# Altium schematic symbol library Capacitors.SchLib: 13 symbols
Pins are listed as number, name and electrical type; pins without a type are passive.

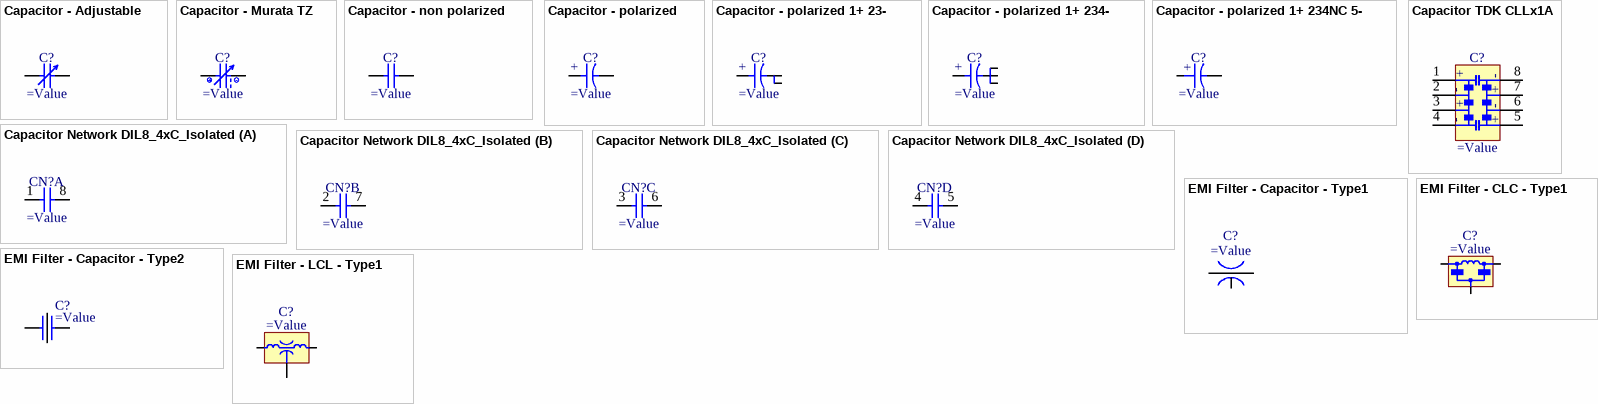
[diagram p0: symbols Capacitor - Adjustable to EMI Filter - LCL - Type1]

## Capacitor - Adjustable
designator C?
Adjustable Capacitor
pins: 1, 2

## Capacitor - Murata TZ
designator C?
Ceramic Trimmer Capacitor, Murata TZ
pins: 1, 2

## Capacitor - non polarized
designator C?
Non-polarised capacitor
pins: 1, 2

## Capacitor - polarized
designator C?
Polarised capacitor
pins: 1, 2
text: +

## Capacitor - polarized 1+ 23-
designator C?
Polarised capacitor
pins: 1, 2, 3
text: +

## Capacitor - polarized 1+ 234-
designator C?
Polarised capacitor
pins: 1, 2, 3, 4
text: +

## Capacitor - polarized 1+ 234NC 5-
designator C?
5 Leads Polarised capacitor
pins: 1, 2 (power) hidden, 3 (power) hidden, 4 (power) hidden, 5
text: +

## Capacitor Network DIL8_4xC_Isolated
designator CN?
DIL8 Capacitor Network 4 Isolated Capacitors
part A pins: 1, 8
part B pins: 2, 7
part C pins: 3, 6
part D pins: 4, 5

## Capacitor TDK CLLx1A
designator C?
Ultra Low Inductance Capacitor, TDK CLL Serie
pins: 1, 2, 3, 4, 5, 6, 7, 8
text: +; -

## EMI Filter - Capacitor - Type1
designator C?
EMI Filter - Capacitor Type 1
pins: 1, 2, 3

## EMI Filter - Capacitor - Type2
designator C?
EMI Filter - Capacitor Type 2
pins: 1, 2, G1, G2

## EMI Filter - CLC - Type1
designator C?
EMI PI Filter
pins: 1, 2, G

## EMI Filter - LCL - Type1
designator C?
EMI Filter (LC Combined)
pins: 1, 2, 3